# Altium footprint library LP5018RSMR.PcbLib: 2 footprints
Each footprint in its own frame and in the unit in brackets; x right, y up, seen from the top. Pads: shape width x height; smd on the part's side, far side on the other; paste and mask are expansions set on the pad; w line width, h text height; cw(c..) or ccw(c..) is an arc to the next point about the centre after c.
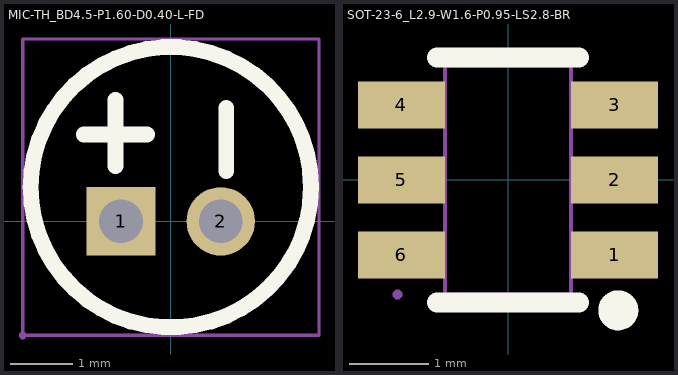
[diagram p0: the footprints below, top view; thin cyan lines are the x and y axes]

## MIC-TH_BD4.5-P1.60-D0.40-L-FD [mm]
pads (2):
  rect 1.1x1.1 hole 0.7 mask+0.102: 1(-0.8,0)
  round 1.1 hole 0.7 mask+0.102: 2(0.8,0)
Top Overlay:
  circle w0.254: c0,0.55 r2.25
  lines w0.254: -1.397,1.396 -0.381,1.396 ; -0.889,0.889 -0.889,1.947 ; 0.889,0.804 0.889,1.82
Mechanical 15:
  region: 1.05,0 1.05,0.05 1.012,0.142 0.942,0.212 0.85,0.25 0.75,0.25 0.659,0.212 0.588,0.142 0.55,0.05 0.55,0 0.55,-0.05 0.588,-0.142 0.659,-0.212 0.75,-0.25 0.85,-0.25 0.942,-0.212 1.012,-0.142 1.05,-0.05 1.05,0
  region: -0.55,0 -0.55,0.05 -0.588,0.142 -0.658,0.212 -0.75,0.25 -0.85,0.25 -0.942,0.212 -1.012,0.142 -1.05,0.05 -1.05,0 -1.05,-0.05 -1.012,-0.142 -0.942,-0.212 -0.85,-0.25 -0.75,-0.25 -0.658,-0.212 -0.588,-0.142 -0.55,-0.05 -0.55,0
  region: -2.317,-1.827 -2.317,-1.802 -2.352,-1.767 -2.402,-1.767 -2.437,-1.802 -2.437,-1.827 -2.437,-1.852 -2.402,-1.887 -2.352,-1.887 -2.317,-1.852 -2.317,-1.827
  lines w0.051: -2.377,-1.827 2.377,-1.827 2.377,2.927 -2.377,2.927 -2.377,-1.827

## SOT-23-6_L2.9-W1.6-P0.95-LS2.8-BR [mm]
pads (6):
  rect 1.1x0.6 smd paste+0 mask+0.051: 1(1.35,-0.95) 2(1.35,0) 3(1.35,0.95) 4(-1.35,0.95) 5(-1.35,0) 6(-1.35,-0.95)
Top Overlay:
  circle w0.254: c1.397,-1.651 r0.127
  lines w0.254: -0.9,-1.55 0.9,-1.55 ; -0.9,1.55 0.9,1.55
Mechanical 6:
  circle w0.2: c1.4,-0.95 r0.1
Mechanical 15:
  region: -1.34,-1.45 -1.34,-1.425 -1.375,-1.39 -1.425,-1.39 -1.46,-1.425 -1.46,-1.45 -1.46,-1.475 -1.425,-1.51 -1.375,-1.51 -1.34,-1.475 -1.34,-1.45
  region: -0.925,-1.165 -0.925,-0.735 -1.4,-0.735 -1.4,-1.165
  region: -0.925,-0.215 -0.925,0.215 -1.4,0.215 -1.4,-0.215
  region: -0.925,0.735 -0.925,1.165 -1.4,1.165 -1.4,0.735
  region: -0.935,0.735 -0.935,1.165 -0.79,1.165 -0.79,0.735
  region: 0.925,0.735 0.925,1.165 1.4,1.165 1.4,0.735
  region: 0.925,-0.215 0.925,0.215 1.4,0.215 1.4,-0.215
  region: 0.925,-1.165 0.925,-0.735 1.4,-0.735 1.4,-1.165
  region: -0.935,-0.215 -0.935,0.215 -0.79,0.215 -0.79,-0.215
  region: -0.935,-1.165 -0.935,-0.735 -0.79,-0.735 -0.79,-1.165
  region: 0.935,-0.735 0.935,-1.165 0.79,-1.165 0.79,-0.735
  region: 0.935,0.215 0.935,-0.215 0.79,-0.215 0.79,0.215
  region: 0.935,1.165 0.935,0.735 0.79,0.735 0.79,1.165
  lines w0.051: -0.8,-1.45 -0.8,1.45 0.8,1.45 0.8,-1.45 -0.8,-1.45
3D body "User Library-SOT23-6-2.SLDPRT": height 1.45, standoff 0, extent -1.4,-1.45 1.4,1.45